# Altium footprint library other - 副本.PcbLib: 17 footprints (part 2 of 2)
Each footprint in its own frame and in the unit in brackets; x right, y up, seen from the top. Pads: shape width x height; smd on the part's side, far side on the other; paste and mask are expansions set on the pad; w line width, h text height; cw(c..) or ccw(c..) is an arc to the next point about the centre after c.
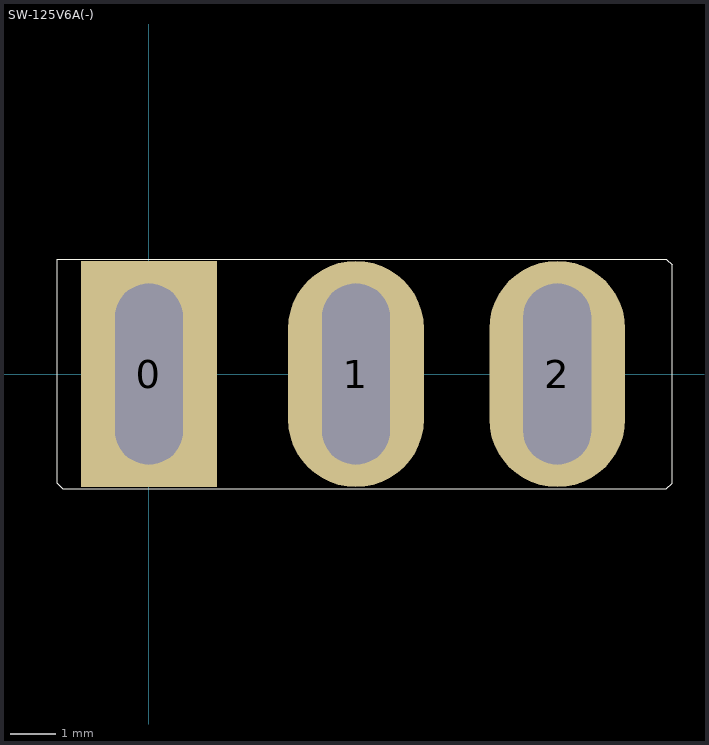
[diagram p1: the footprint, top view; thin cyan lines are the x and y axes]

## SW-125V6A(-) [mm]
pads (3):
  rect 3x5 hole 1.5 slot 4 at 90 deg: 0(0,0)
  oval 3x5 hole 1.5 slot 4 at 90 deg: 1(4.572,0) 2(9.017,0)
Top Overlay:
  lines w0.025: -1.778,-2.54 -1.905,-2.54 ; -1.905,-2.54 -2.032,-2.413 -2.032,2.54 11.43,2.54 11.557,2.413 11.557,-2.413 11.43,-2.54 -1.905,-2.54